# Altium schematic symbol library C0805.SchLib: 1 symbol
Pins are listed as number, name and electrical type; pins without a type are passive.

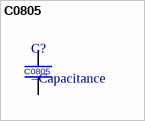
[diagram p0: symbol C0805]

## C0805
designator C?
pins: 1, 2